# Altium footprint library MyLibrary.PcbLib: 365 footprints (part 18 of 23)
Each footprint in its own frame and in the unit in brackets; x right, y up, seen from the top. Pads: shape width x height; smd on the part's side, far side on the other; paste and mask are expansions set on the pad; w line width, h text height; cw(c..) or ccw(c..) is an arc to the next point about the centre after c.
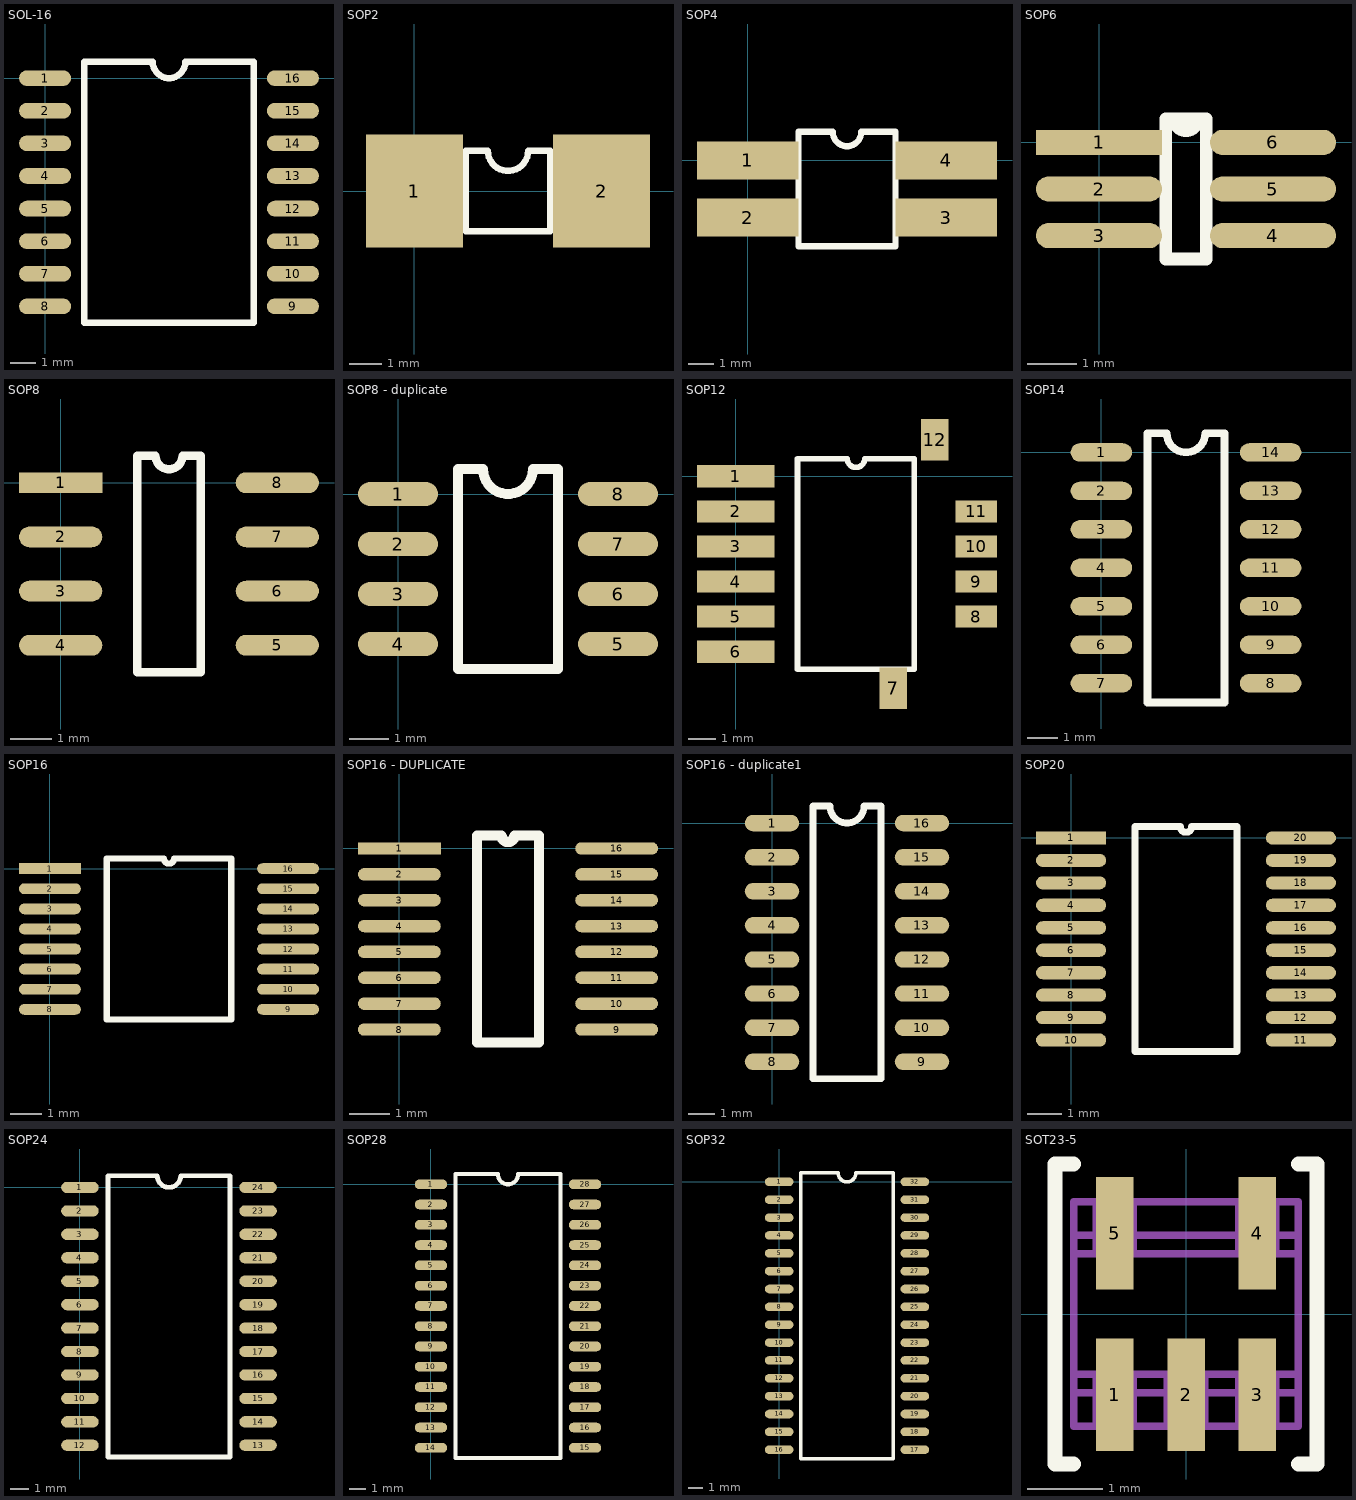
[diagram p17: the footprints below, top view; thin cyan lines are the x and y axes]

## SOL-16 [mil]
pads (16):
  oval 80x24 smd: 1(0,0) 2(0,-50) 3(0,-100) 4(0,-150) 5(0,-200) 6(0,-250) 7(0,-300) 8(0,-350) 9(380,-350) 10(380,-300) 11(380,-250) 12(380,-200) 13(380,-150) 14(380,-100) 15(380,-50) 16(380,0)
Top Overlay:
  lines w10: 60,-375 320,-375 320,25 215,25 cw(c190,25) 165,25 60,25 60,-375

## SOP2 [mm]
pads (2):
  rect 3x3.5 smd: 1(0,0) 2(5.8,0)
Top Overlay:
  lines w0.2: 1.585,-1.25 4.215,-1.25 4.215,1.25 3.525,1.25 cw(c2.9,1.25) 2.275,1.25 1.585,1.25 1.585,-1.25

## SOP4 [mil]
pads (4):
  rect 160x60 smd: 1(0,0) 2(0,-90) 3(313,-90) 4(313,0)
Top Overlay:
  lines w10: 80,-135 233,-135 233,45 179,45 cw(c156.5,45) 134,45 80,45 80,-135

## SOP6 [mil]
pads (6):
  rect 100x20 smd: 1(0,0)
  oval 100x20 smd: 2(0,-37) 3(0,-74) 4(138,-74) 5(138,-37) 6(138,0)
Top Overlay:
  lines w10: 53,-92.5 85,-92.5 85,18.5 59.75,18.5 ccw(c69,18.5) 78.25,18.5 53,18.5 53,-92.5

## SOP8 [mm]
pads (8):
  rect 2x0.5 smd: 1(0,0)
  oval 2x0.5 smd: 2(0,-1.3) 3(0,-2.6) 4(0,-3.9) 5(5.2,-3.9) 6(5.2,-2.6) 7(5.2,-1.3) 8(5.2,0)
Top Overlay:
  lines w0.2: 1.835,-4.55 1.835,0.65 2.275,0.65 ccw(c2.6,0.65) 2.925,0.65 3.365,0.65 3.365,-4.55 1.835,-4.55

## SOP8 - duplicate [mil]
pads (8):
  oval 80x24 smd: 1(0,0) 2(0,-50) 3(0,-100) 4(0,-150) 5(220,-150) 6(220,-100) 7(220,-50) 8(220,0)
Top Overlay:
  lines w10: 60,-175 60,25 85,25 ccw(c110,25) 135,25 160,25 160,-175 60,-175

## SOP12 [mm]
pads (12):
  rect 2.8x0.8 smd: 1(0,0) 2(0,-1.27) 3(0,-2.54) 4(0,-3.81) 5(0,-5.08) 6(0,-6.35)
  rect 1x1.5 smd: 7(5.7,-7.675) 12(7.2,1.325)
  rect 1.5x0.8 smd: 8(8.7,-5.08) 9(8.7,-3.81) 10(8.7,-2.54) 11(8.7,-1.27)
Top Overlay:
  lines w0.2: 2.235,-6.985 6.465,-6.985 6.465,0.635 4.667,0.635 cw(c4.35,0.635) 4.032,0.635 2.235,0.635 2.235,-6.985

## SOP14 [mil]
pads (14):
  oval 80x24 smd: 1(0,0) 2(0,-50) 3(0,-100) 4(0,-150) 5(0,-200) 6(0,-250) 7(0,-300) 8(220,-300) 9(220,-250) 10(220,-200) 11(220,-150) 12(220,-100) 13(220,-50) 14(220,0)
Top Overlay:
  lines w10: 60,-325 160,-325 160,25 135,25 cw(c110,25) 85,25 60,25 60,-325

## SOP16 [mm]
pads (16):
  rect 2x0.35 smd: 1(0,0)
  oval 2x0.35 smd: 2(0,-0.65) 3(0,-1.3) 4(0,-1.95) 5(0,-2.6) 6(0,-3.25) 7(0,-3.9) 8(0,-4.55) 9(7.7,-4.55) 10(7.7,-3.9) 11(7.7,-3.25) 12(7.7,-2.6) 13(7.7,-1.95) 14(7.7,-1.3) 15(7.7,-0.65) 16(7.7,0)
Top Overlay:
  lines w0.2: 1.835,-4.875 1.835,0.325 3.688,0.325 ccw(c3.85,0.325) 4.012,0.325 5.865,0.325 5.865,-4.875 1.835,-4.875

## SOP16 - DUPLICATE [mil]
pads (16):
  rect 80x12 smd: 1(0,0)
  oval 80x12 smd: 2(0,-25) 3(0,-50) 4(0,-75) 5(0,-100) 6(0,-125) 7(0,-150) 8(0,-175) 9(210,-175) 10(210,-150) 11(210,-125) 12(210,-100) 13(210,-75) 14(210,-50) 15(210,-25) 16(210,0)
Top Overlay:
  lines w10: 75,-187.5 135,-187.5 135,12.5 111.25,12.5 cw(c105,12.5) 98.75,12.5 75,12.5 75,-187.5

## SOP16 - duplicate1 [mil]
pads (16):
  oval 80x24 smd: 1(0,0) 2(0,-50) 3(0,-100) 4(0,-150) 5(0,-200) 6(0,-250) 7(0,-300) 8(0,-350) 9(220,-350) 10(220,-300) 11(220,-250) 12(220,-200) 13(220,-150) 14(220,-100) 15(220,-50) 16(220,0)
Top Overlay:
  lines w10: 60,-375 60,25 85,25 ccw(c110,25) 135,25 160,25 160,-375 60,-375

## SOP20 [mm]
pads (20):
  rect 2.032x0.38 smd: 1(0,0)
  oval 2.032x0.38 smd: 2(0,-0.65) 3(0,-1.3) 4(0,-1.95) 5(0,-2.6) 6(0,-3.25) 7(0,-3.9) 8(0,-4.55) 9(0,-5.2) 10(0,-5.85) 11(6.65,-5.85) 12(6.65,-5.2) 13(6.65,-4.55) 14(6.65,-3.9) 15(6.65,-3.25) 16(6.65,-2.6) 17(6.65,-1.95) 18(6.65,-1.3) 19(6.65,-0.65) 20(6.65,0)
Top Overlay:
  lines w0.2: 1.851,-6.175 4.799,-6.175 4.799,0.325 3.487,0.325 cw(c3.325,0.325) 3.163,0.325 1.851,0.325 1.851,-6.175

## SOP24 [mil]
pads (24):
  oval 80x24 smd: 1(0,0) 2(0,-50) 3(0,-100) 4(0,-150) 5(0,-200) 6(0,-250) 7(0,-300) 8(0,-350) 9(0,-400) 10(0,-450) 11(0,-500) 12(0,-550) 13(380,-550) 14(380,-500) 15(380,-450) 16(380,-400) 17(380,-350) 18(380,-300) 19(380,-250) 20(380,-200) 21(380,-150) 22(380,-100) 23(380,-50) 24(380,0)
Top Overlay:
  lines w10: 60,-575 60,25 165,25 ccw(c190,25) 215,25 320,25 320,-575 60,-575

## SOP28 [mil]
pads (28):
  oval 80x24 smd: 1(0,0) 2(0,-50) 3(0,-100) 4(0,-150) 5(0,-200) 6(0,-250) 7(0,-300) 8(0,-350) 9(0,-400) 10(0,-450) 11(0,-500) 12(0,-550) 13(0,-600) 14(0,-650) 15(380,-650) 16(380,-600) 17(380,-550) 18(380,-500) 19(380,-450) 20(380,-400) 21(380,-350) 22(380,-300) 23(380,-250) 24(380,-200) 25(380,-150) 26(380,-100) 27(380,-50) 28(380,0)
Top Overlay:
  lines w10: 60,-675 60,25 165,25 ccw(c190,25) 215,25 320,25 320,-675 60,-675

## SOP32 [mil]
pads (32):
  oval 80x24 smd: 1(0,0) 2(0,-50) 3(0,-100) 4(0,-150) 5(0,-200) 6(0,-250) 7(0,-300) 8(0,-350) 9(0,-400) 10(0,-450) 11(0,-500) 12(0,-550) 13(0,-600) 14(0,-650) 15(0,-700) 16(0,-750) 17(380,-750) 18(380,-700) 19(380,-650) 20(380,-600) 21(380,-550) 22(380,-500) 23(380,-450) 24(380,-400) 25(380,-350) 26(380,-300) 27(380,-250) 28(380,-200) 29(380,-150) 30(380,-100) 31(380,-50) 32(380,0)
Top Overlay:
  lines w10: 60,-775 60,25 165,25 ccw(c190,25) 215,25 320,25 320,-775 60,-775

## SOT23-5 [mm]
pads (5):
  rect 0.5x1.5 smd: 1(-0.95,-1.075) 2(0,-1.075) 3(0.95,-1.075) 4(0.95,1.075) 5(-0.95,1.075)
Top Overlay:
  lines w0.2: -1.5,-2 -1.75,-2 -1.75,2 -1.5,2 ; 1.5,-2 1.75,-2 1.75,2 1.5,2
Mechanical 1:
  lines w0.1: -1.5,-1.05 1.5,-1.05 ; -1.5,-0.8 1.5,-0.8 ; -1.5,0.8 1.5,0.8 ; -1.5,1.05 1.5,1.05 ; -1.2,-1.5 -1.2,-0.8 ; -1.2,0.8 -1.2,1.5 ; -0.7,-1.5 -0.7,-0.8 ; -0.7,0.8 -0.7,1.5 ; -0.25,-1.5 -0.25,-0.8 ; 0.25,-1.5 0.25,-0.8 ; 0.7,-1.5 0.7,-0.8 ; 0.7,0.8 0.7,1.5 ; 1.2,-1.5 1.2,-0.8 ; 1.2,0.8 1.2,1.5 ; -1.5,-1.5 1.5,-1.5 1.5,1.5 -1.5,1.5 -1.5,-1.5